# EAGLE library part CS4330 (library armlab)
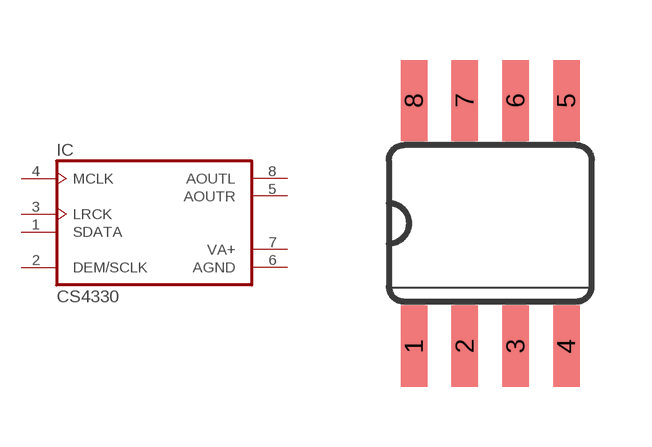
[diagram p1: symbol with the pads of SO08; footprint SO08]

Designator prefix IC

## CS4330  [SO08]
1  SDATA  in
2  DEM/SCLK  in
3  LRCK  in
4  MCLK  in
5  AOUTR  out
6  AGND  pwr
7  VA+  pwr
8  AOUTL  out

## Footprint SO08 (pad centres in mm)
Small Outline package 8 150 mil
smd 0.66 x 2.032: 1 -1.905,-3.073; 2 -0.635,-3.073; 3 0.635,-3.073; 4 1.905,-3.073; 5 1.905,3.073; 6 0.635,3.073; 7 -0.635,3.073; 8 -1.905,3.073